# EAGLE library part TSM-108-03-T-DV (library TSM-108-03-T-DV)
16 Position, Dual-Row, .100" Surface Mount Terminal Strip Source: Datasheet <http://suddendocs.samtec.com/prints/tsm-1xx-xx-xxx-xx-x-xxx-x-mkt.pdf>
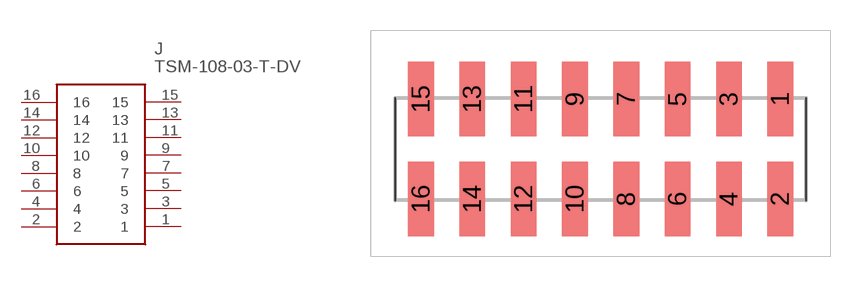
[diagram p0: symbol with the pads of TSM-108-YY-ZZZ-DV; footprint TSM-108-YY-ZZZ-DV]

Designator prefix J

## TSM-108-03-T-DV (DESCRIPTION: 16 Position, Dual-Row, .100&quot; Surface Mount Terminal Strip; HEIGHT: mm; MANUFACTURER_NAME: SAMTEC; MANUFACTURER_PART_NUMBER: TSM-108-03-T-DV)  [TSM-108-YY-ZZZ-DV]
1  1
2  2
3  3
4  4
5  5
6  6
7  7
8  8
9  9
10  10
11  11
12  12
13  13
14  14
15  15
16  16

## Footprint TSM-108-YY-ZZZ-DV (pad centres in mm)
TSM-108-YY-ZZZ-DV
smd 1.27 x 3.68: 1 8.89,2.475; 2 8.89,-2.475; 3 6.35,2.475; 4 6.35,-2.475; 5 3.81,2.475; 6 3.81,-2.475; 7 1.27,2.475; 8 1.27,-2.475; 9 -1.27,2.475; 10 -1.27,-2.475; 11 -3.81,2.475; 12 -3.81,-2.475; 13 -6.35,2.475; 14 -6.35,-2.475; 15 -8.89,2.475; 16 -8.89,-2.475